# EAGLE library part RD7-12S033R (library RD7-12S033R)
Isolated DC/DC Converters - Through Hole DC-DC Converter, Isolated Module, Single Output, 9V-18VDC Input, 3.3VDC, 3W Source: Datasheet <https://app.adam-tech.com/products/download/data_sheet/247025/rd7-12s033r-data-sheet.pdf>
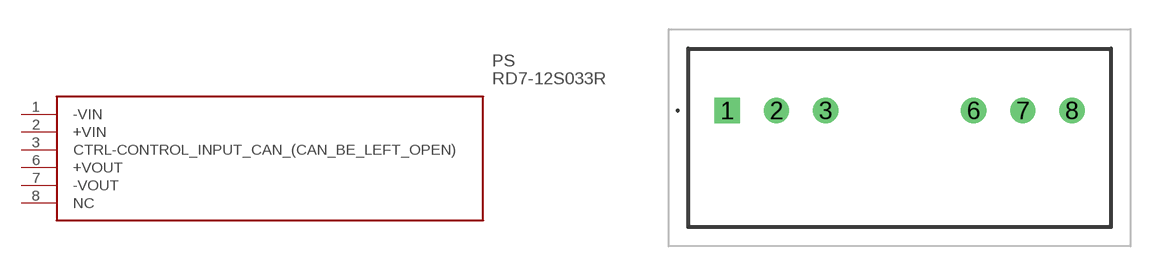
[diagram p0: symbol with the pads of RD712S033R; footprint RD712S033R]

Designator prefix PS

## RD7-12S033R (Description: Isolated DC/DC Converters - Through Hole DC-DC Converter, Isolated Module, Single Output, 9V-18VDC Input, 3.3VDC, 3W; Height: 11.6mm; Manufacturer_Name: Adam Tech; Manufacturer_Part_Number: RD7-12S033R)  [RD712S033R]
1  -VIN
2  +VIN
3  CTRL-CONTROL_INPUT_CAN_(CAN_BE_LEFT_OPEN)
6  +VOUT
7  -VOUT
8  NC  nc

## Footprint RD712S033R (pad centres in mm)
8-SIP Module, 6 Leads
drill 0.76 pad 1.303 square: 1 0,0
drill 0.76 pad 1.303: 2 2.54,0; 3 5.08,0; 6 12.7,0; 7 15.24,0; 8 17.78,0